# EAGLE library part LD-S100 (library #PaJa_displeje)
LED displej - SA - 25,4mm
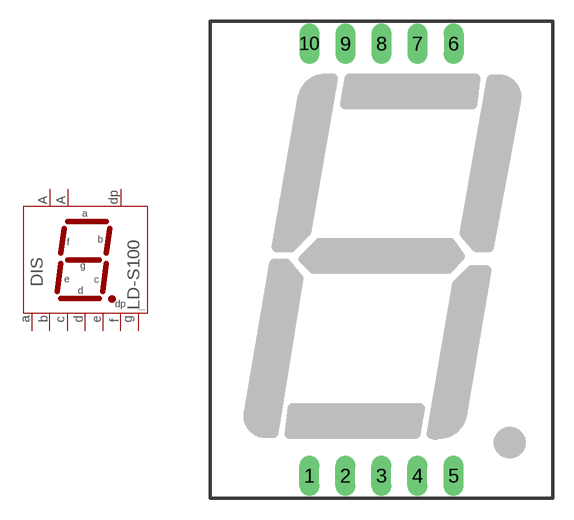
[diagram p16: symbol with the pads of SA10-21; footprint SA10-21]

Designator prefix DIS

## LD-S100  [SA10-21]
1  E  pas
2  D  pas
3  CA1  pas
4  C  pas
5  DP  pas
6  B  pas
7  A  pas
8  CA2  pas
9  F  pas
10  G  pas

## Footprint SA10-21 (pad centres in mm)
7-segmentovy displej - spol. anoda vyska znaku 25,4mm
drill 0.813 pad 1.422 long: 1 -5.08,-15.24; 2 -2.54,-15.24; 3 0,-15.24; 4 2.54,-15.24; 5 5.08,-15.24; 6 5.08,15.24; 7 2.54,15.24; 8 0,15.24; 9 -2.54,15.24; 10 -5.08,15.24